# Altium footprint library PcbLib1_Symbol.PcbLib: 3 footprints
Each footprint in its own frame and in the unit in brackets; x right, y up, seen from the top. Pads: shape width x height; smd on the part's side, far side on the other; paste and mask are expansions set on the pad; w line width, h text height; cw(c..) or ccw(c..) is an arc to the next point about the centre after c.
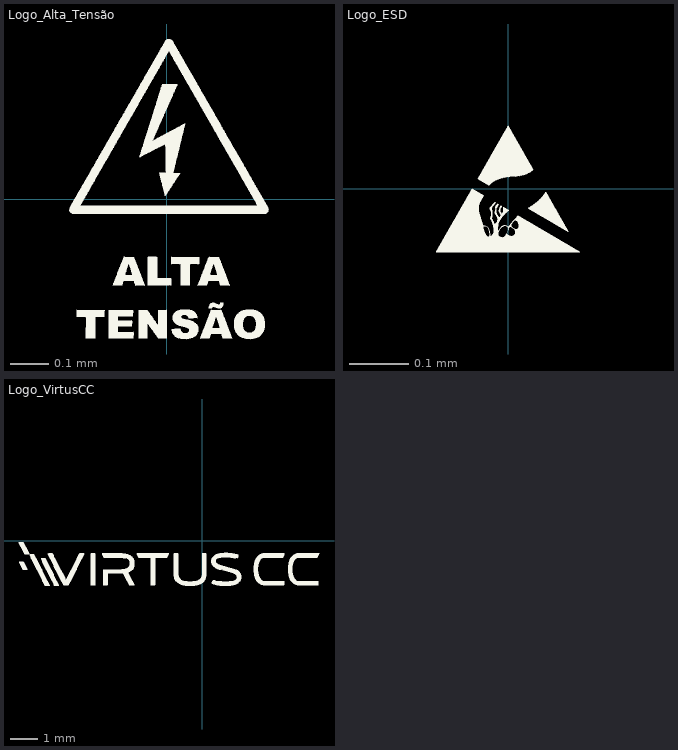
[diagram p0: the footprints below, top view; thin cyan lines are the x and y axes]

## Logo_Alta_Tensão [mm]
Top Overlay:
  drawing of 13 lines, arcs and shapes, not listed

## Logo_ESD [mm]
Top Overlay:
  drawing of 3 lines, arcs and shapes, not listed

## Logo_VirtusCC [mm]
Top Overlay:
  drawing of 12 lines, arcs and shapes, not listed